# EAGLE library part WE-LAN749023020 (library Wuerth_Elektronik_eiSos_ v6.0)
LAN-Transformer WE-LAN 16Pin - Compliant with IEEE 802.3 standards - SMD -- Ethernet -- Power over Ethernet -- 1 Gigabit Ethernet -- Compliant with most IC's for ethernet applications like Intel, AMD, Globespan and Realtek
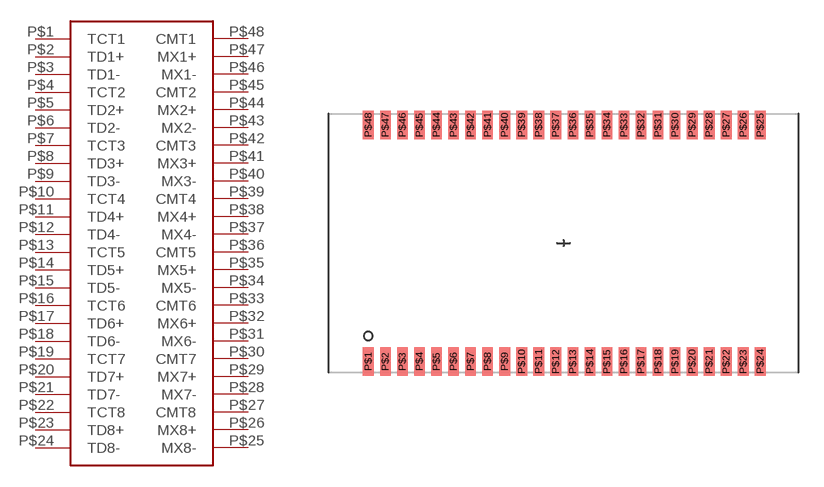
[diagram p14: symbol with the pads of WE-LAN_749013040; footprint WE-LAN_749013040]

Designator prefix -

## WE-LAN749023020  [WE-LAN_749013040]
P$1  TCT1
P$2  TD1+
P$3  TD1-
P$4  TCT2
P$5  TD2+
P$6  TD2-
P$7  TCT3
P$8  TD3+
P$9  TD3-
P$10  TCT4
P$11  TD4+
P$12  TD4-
P$13  TCT5
P$14  TD5+
P$15  TD5-
P$16  TCT6
P$17  TD6+
P$18  TD6-
P$19  TCT7
P$20  TD7+
P$21  TD7-
P$22  TCT8
P$23  TD8+
P$24  TD8-
P$25  MX8-
P$26  MX8+
P$27  CMT8
P$28  MX7-
P$29  MX7+
P$30  CMT7
P$31  MX6-
P$32  MX6+
P$33  CMT6
P$34  MX5-
P$35  MX5+
P$36  CMT5
P$37  MX4-
P$38  MX4+
P$39  CMT4
P$40  MX3-
P$41  MX3+
P$42  CMT3
P$43  MX2-
P$44  MX2+
P$45  CMT2
P$46  MX1-
P$47  MX1+
P$48  CMT1

## Footprint WE-LAN_749013040 (pad centres in mm)
LAN- Transformer
smd 0.64 x 1.72: P$1 -11.68,-7.08; P$2 -10.66,-7.08; P$3 -9.64,-7.08; P$4 -8.62,-7.08; P$5 -7.6,-7.08; P$6 -6.58,-7.08; P$7 -5.56,-7.08; P$8 -4.54,-7.08; P$9 -3.52,-7.08; P$10 -2.5,-7.08; P$11 -1.48,-7.08; P$12 -0.46,-7.08; P$13 0.56,-7.08; P$14 1.58,-7.08; P$15 2.6,-7.08; P$16 3.62,-7.08; P$17 4.64,-7.08; P$18 5.66,-7.08; P$19 6.68,-7.08; P$20 7.7,-7.08; P$21 8.72,-7.08; P$22 9.74,-7.08; P$23 10.76,-7.08; P$24 11.78,-7.08; P$25 11.78,7.08; P$26 10.76,7.08; P$27 9.74,7.08; P$28 8.72,7.08; P$29 7.7,7.08; P$30 6.68,7.08; P$31 5.66,7.08; P$32 4.64,7.08; P$33 3.62,7.08; P$34 2.6,7.08; P$35 1.58,7.08; P$36 0.56,7.08; P$37 -0.46,7.08; P$38 -1.48,7.08; P$39 -2.5,7.08; P$40 -3.52,7.08; P$41 -4.54,7.08; P$42 -5.56,7.08; P$43 -6.58,7.08; P$44 -7.6,7.08; P$45 -8.62,7.08; P$46 -9.64,7.08; P$47 -10.66,7.08; P$48 -11.68,7.08